# Altium footprint library CAPACITORS.PCBLIB: 12 footprints
Each footprint in its own frame and in the unit in brackets; x right, y up, seen from the top. Pads: shape width x height; smd on the part's side, far side on the other; paste and mask are expansions set on the pad; w line width, h text height; cw(c..) or ccw(c..) is an arc to the next point about the centre after c.
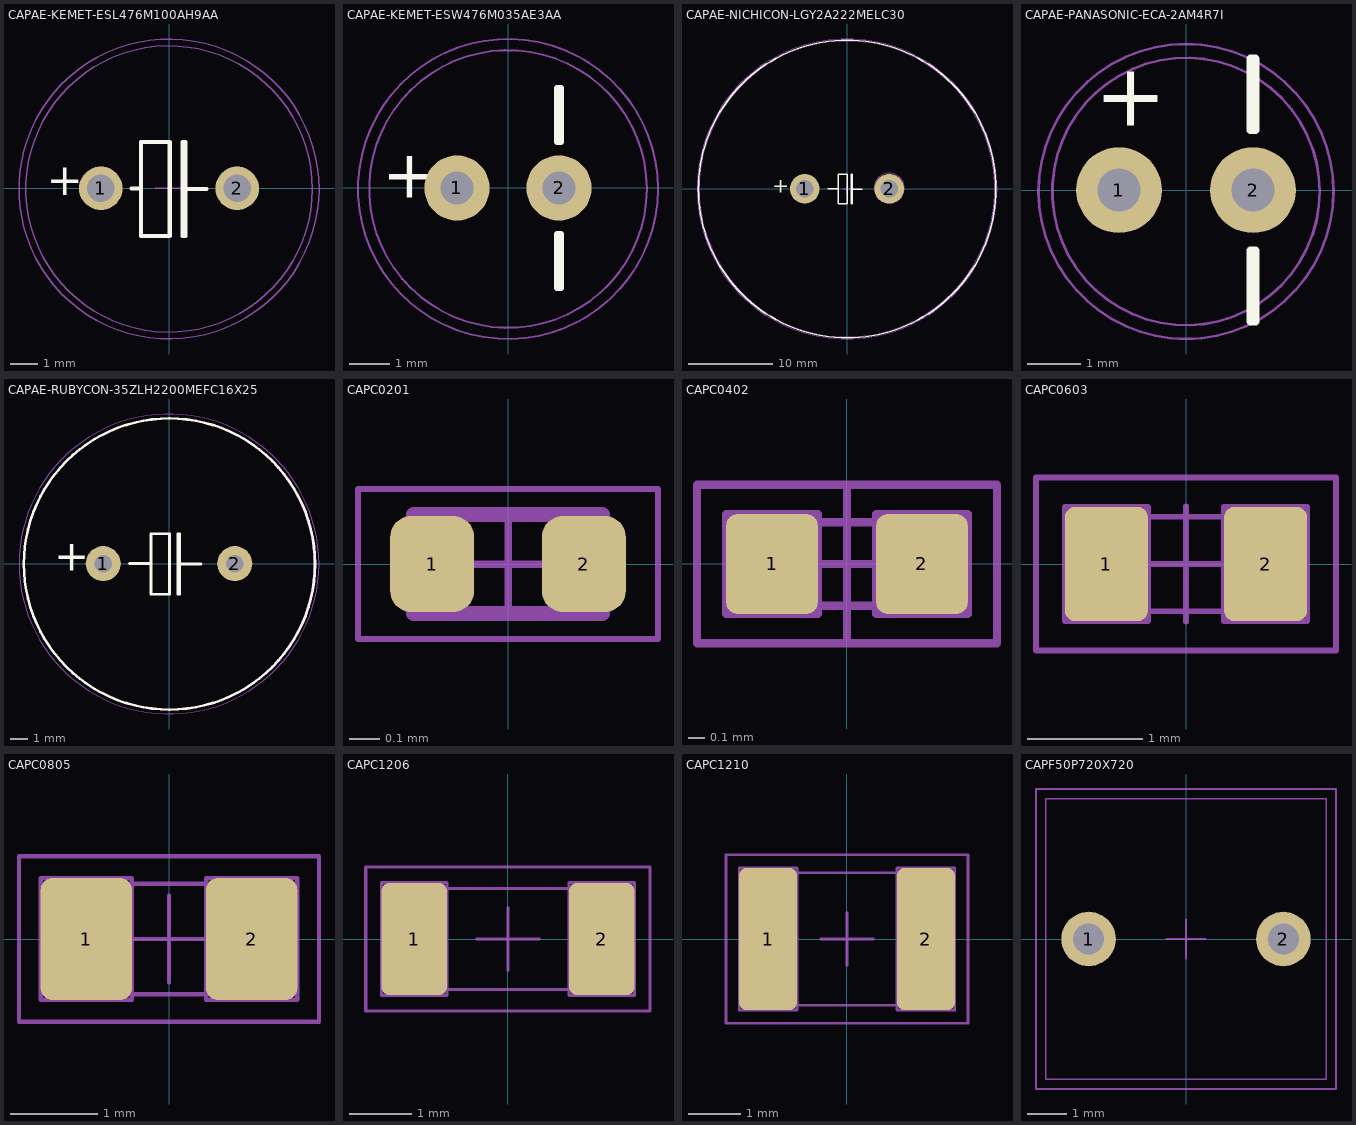
[diagram p0: the footprints below, top view; thin cyan lines are the x and y axes]

## CAPAE-KEMET-ESL476M100AH9AA [mm] "CAPACITOR,ALU-EL,KEMET-ESL476M100AH9AA"
pads (2):
  round 1.6 hole 1 unplated: 1(-2.5,0) 2(2.5,0)
Top Overlay:
  lines w0.15: -1.375,0 -1.024,0 -1.024,1.7 0.026,1.7 0.026,0.025 0.026,-1.75 -1.024,-1.75 -1.024,-0.05 ; 1.375,-0.025 0.601,-0.025 ; 0.501,-0.025 0.501,1.7 0.601,1.7 0.601,-0.025 ; 0.501,-0.025 0.601,-0.025 ; 0.501,-0.025 0.501,-1.75 0.601,-1.75 0.601,-0.025 ; 0.501,-0.025 0.601,-0.025
  text "+" at -4.475,-0.632 h2
Top Courtyard:
  circle w0.05: c0,-0.025 r5.5
  lines w0.05: -0.499,0 0.001,0 ; 0,-0.498 0,0.002 ; 0.001,0.5 0.001,0 ; 0.501,0 0.001,0
Top Assembly:
  circle w0.05: c0,-0.025 r5.25
3D body "ESL476M100AH9AA.step": height 14.02, standoff -19.99, extent -5.25,-5.267 5.25,5.25

## CAPAE-KEMET-ESW476M035AE3AA [mm] "CAPACITOR,ALU-EL,KEMET-ESW476M035AE3AA"
pads (2):
  round 1.6 hole 0.8 unplated: 1(-1.25,0) 2(1.25,0)
Top Overlay:
  lines w0.15: 1.225,-1.125 1.3,-1.125 1.3,-2.45 1.2,-2.45 1.2,-1.125 1.25,-1.125 ; 1.225,1.125 1.3,1.125 1.3,2.45 1.2,2.45 1.2,1.125 1.25,1.125
  text "+" at -3.075,-0.632 h2
Top Courtyard:
  circle w0.05: c0,-0.025 r3.675
Top Assembly:
  circle w0.05: c0,-0.025 r3.4
3D body "ESW476M035AE3AA.step": height 12.52, standoff -19.99, extent -3.37,-3.4 3.42,3.411

## CAPAE-NICHICON-LGY2A222MELC30 [mm] "CAPACITOR,ALU-EL,SNAP-IN,NICHICON,LGY2A222MELC30"
pads (2):
  round 3.5 hole 2.1 unplated: 1(-5,0) 2(5,0)
Top Overlay:
  circle w0.15: c0.025,-0.025 r17.605
  lines w0.15: -2.25,0 -1.025,0 -1.025,1.7 0.025,1.7 0.025,0.025 0.025,-1.75 -1.025,-1.75 -1.025,-0.05 ; 1.825,-0.025 0.6,-0.025 ; 0.5,-0.025 0.5,1.7 0.6,1.7 0.6,-0.025 ; 0.5,-0.025 0.6,-0.025 ; 0.5,-0.025 0.5,-1.75 0.6,-1.75 0.6,-0.025 ; 0.5,-0.025 0.6,-0.025
  text "+" at -8.875,-1.035 h3
Top Courtyard:
  circle w0.05: c0,-0.025 r17.75
  lines w0.05: -0.5,0 0,0 ; -0.001,-0.498 -0.001,0.002 ; 0,0.5 0,0 ; 0.5,0 0,0
Top Assembly:
  circle w0.05: c0,-0.025 r17.5
  circle w0.05: c5,0.088 r1.051
  circle w0.05: c5,0.088 r1.775
3D body "User Library-C_35X35_HITANO.step": height 35.01, standoff -3.49, extent -17.5,-17.525 17.5,17.5

## CAPAE-PANASONIC-ECA-2AM4R7I [mm] "CAPACITOR,ALU-EL,PANASONIC-ECA-2AM4R7I"
pads (2):
  round 1.6 hole 0.8 unplated: 1(-1.25,0) 2(1.25,0)
Top Overlay:
  lines w0.15: 1.225,-1.125 1.3,-1.125 1.3,-2.45 1.2,-2.45 1.2,-1.125 1.25,-1.125 ; 1.225,1.125 1.3,1.125 1.3,2.45 1.2,2.45 1.2,1.125 1.25,1.125
  text "+" at -1.7,0.818 h2
Top Courtyard:
  circle w0.05: c0,-0.025 r2.75
Top Assembly:
  circle w0.05: c0,-0.025 r2.493
3D body "ECA-2AM4R7I.step": height 11.01, standoff -16.99, extent -2.493,-2.5 2.5,2.5

## CAPAE-RUBYCON-35ZLH2200MEFC16X25 [mm] "CAPACITOR,ALU-EL,RUBYCON-35ZLH2200MEFC16X25"
pads (2):
  round 2 hole 1 unplated: 1(-3.75,0) 2(3.75,0)
Top Overlay:
  circle w0.15: c0.025,-0.025 r8.301
  lines w0.15: -2.25,0 -1.025,0 -1.025,1.7 0.025,1.7 0.025,0.025 ; -1.025,-0.05 -1.025,-1.75 0.025,-1.75 0.025,-0.075 ; 1.825,-0.025 0.6,-0.025 ; 0.5,-0.025 0.5,1.7 0.6,1.7 0.6,-0.025 ; 0.5,-0.025 0.6,-0.025 ; 0.5,-0.025 0.5,-1.75 0.6,-1.75 0.6,-0.025 ; 0.5,-0.025 0.6,-0.025
  text "+" at -6.55,-0.985 h3
Top Courtyard:
  circle w0.05: c0,-0.025 r8.552
Top Assembly:
  circle w0.05: c0,-0.025 r8.276
3D body "CapAluRadial_D160H250.STEP": height 27, standoff -3, extent -8.25,-8.296 8.239,8.196

## CAPC0201 [mm]
pads (2):
  rrect50% 0.28x0.32 smd mask+0.05: 1(-0.253,0) 2(0.253,0)
Top Courtyard:
  lines w0.02: -0.5,-0.25 0.5,-0.25 0.5,0.25 -0.5,0.25 -0.5,-0.25
  lines w0.025: -0.165,0 0.165,0 ; 0,-0.165 0,0.165
Top Assembly:
  lines w0.05: -0.315,-0.165 0.315,-0.165 0.315,0.165 -0.315,0.165 -0.315,-0.165
3D body "CAPC0603X03L.step": height 0.33, standoff 0, extent -0.315,-0.165 0.315,0.165

## CAPC0402 [mm] "CAPACITOR, CHIP 0402 (1005) 0.5MM THICK"
height 0.523
pads (2):
  rrect25% 0.55x0.6 smd paste+0 mask+0.075: 1(-0.45,0) 2(0.45,0)
Top Courtyard:
  lines w0.05: -0.5,0 0,0 ; 0,-0.475 0,0 ; 0,0.475 0,0 ; 0.5,0 0,0 ; -0.9,-0.475 0.9,-0.475 0.9,0.475 -0.9,0.475 -0.9,-0.475
Top Assembly:
  lines w0.05: -0.725,-0.3 -0.175,-0.3 -0.175,0.3 -0.725,0.3 -0.725,-0.3 ; -0.5,-0.251 0.5,-0.251 0.5,0.251 -0.5,0.251 -0.5,-0.251 ; 0.175,-0.3 0.725,-0.3 0.725,0.3 0.175,0.3 0.175,-0.3
3D body "capc1005x50.STEP": height 0.52, standoff 0.01, extent -0.51,-0.255 0.51,0.255

## CAPC0603 [mm] "CAPACITOR, CHIP 0603 (1608) 0.5MM THICK"
height 0.51
pads (2):
  rrect25% 0.72x0.99 smd paste+0 mask+0.075: 1(-0.69,0) 2(0.69,0)
Top Courtyard:
  lines w0.05: -0.5,0 0,0 ; 0,-0.5 0,0 ; 0,0.5 0,0 ; 0.5,0 0,0 ; -1.3,-0.75 1.3,-0.75 1.3,0.75 -1.3,0.75 -1.3,-0.75
Top Assembly:
  lines w0.05: -1.05,-0.495 -0.33,-0.495 -0.33,0.495 -1.05,0.495 -1.05,-0.495 ; -0.81,-0.41 0.81,-0.41 0.81,0.41 -0.81,0.41 -0.81,-0.41 ; 0.33,-0.495 1.05,-0.495 1.05,0.495 0.33,0.495 0.33,-0.495
3D body "MLCC capacitor 0603 - 0.5mm .STEP": height 0.51, standoff -0.01, extent -0.81,-0.41 0.81,0.41

## CAPC0805 [mm] "CAPACITOR, CHIP 0805 (2012) 0.85MM THICK"
height 0.86
pads (2):
  rrect25% 1.05x1.4 smd paste+0 mask+0.075: 1(-0.95,0) 2(0.95,0)
Top Courtyard:
  lines w0.05: -0.5,0 0,0 ; 0,-0.5 0,0 ; 0,0.5 0,0 ; 0.5,0 0,0 ; -1.725,-0.95 -1.725,0.95 1.725,0.95 1.725,-0.95 -1.725,-0.95
Top Assembly:
  lines w0.05: -1.475,-0.7 -1.475,0.7 -0.425,0.7 -0.425,-0.7 -1.475,-0.7 ; -1.01,-0.635 -1.01,0.635 1.01,0.635 1.01,-0.635 -1.01,-0.635 ; 0.425,-0.7 0.425,0.7 1.475,0.7 1.475,-0.7 0.425,-0.7
3D body "MLCC capacitor 0805 - 0.85mm .STEP": height 0.86, standoff -0.01, extent -1.01,-0.635 1.01,0.635

## CAPC1206 [mm] "CAPACITOR, CHIP 1206 (3216) 0.85MM THICK"
height 0.86
pads (2):
  rrect25% 1.05x1.8 smd paste+0 mask+0.075: 1(-1.5,0) 2(1.5,0)
Top Courtyard:
  lines w0.05: -0.5,0 0,0 ; 0,-0.5 0,0 ; 0,0.5 0,0 ; 0.5,0 0,0 ; -2.275,-1.15 -2.275,1.15 2.275,1.15 2.275,-1.15 -2.275,-1.15
Top Assembly:
  lines w0.05: -2.025,-0.9 -2.025,0.9 -0.975,0.9 -0.975,-0.9 -2.025,-0.9 ; -1.61,-0.81 -1.61,0.81 1.61,0.81 1.61,-0.81 -1.61,-0.81 ; 0.975,-0.9 0.975,0.9 2.025,0.9 2.025,-0.9 0.975,-0.9
3D body "MLCC capacitor 1206 - 0.85mm .STEP": height 0.86, standoff -0.01, extent -1.61,-0.81 1.61,0.81

## CAPC1210 [mm] "CAPACITOR CHIP 1210 (3225) 2.00MM THICK"
height 2.01
pads (2):
  rrect25% 1.1x2.7 smd paste+0 mask+0.075: 1(-1.5,0) 2(1.5,0)
Top Courtyard:
  lines w0.05: -0.5,0 0,0 ; 0,-0.5 0,0 ; 0,0.5 0,0 ; 0.5,0 0,0 ; -2.3,-1.6 2.3,-1.6 2.3,1.6 -2.3,1.6 -2.3,-1.6
Top Assembly:
  lines w0.05: -2.05,-1.35 -0.95,-1.35 -0.95,1.35 -2.05,1.35 -2.05,-1.35 ; -1.61,-1.26 1.61,-1.26 1.61,1.26 -1.61,1.26 -1.61,-1.26 ; 0.95,-1.35 2.05,-1.35 2.05,1.35 0.95,1.35 0.95,-1.35
3D body "MLCC capacitor 1210 - 2.0mm .STEP": height 2.01, standoff -0.01, extent -1.61,-1.26 1.61,1.26

## CAPF50P720X720 [mm]
pads (2):
  round 1.4 hole 0.8 unplated: 1(-2.5,0) 2(2.5,0)
Top Courtyard:
  lines w0.05: -0.5,0 0,0 ; 0,-0.5 0,0 ; 0,0.5 0,0 ; 0.5,0 0,0 ; -3.85,-3.85 -3.85,3.85 3.85,3.85 3.85,-3.85 -3.85,-3.85
Top Assembly:
  lines w0.05: -3.6,-3.6 3.6,-3.6 3.6,3.6 -3.6,3.6 -3.6,-3.6
3D body "PHE426HJ6100JR05.step": height 11.01, standoff -4.99, extent -3.6,-3.003 3.6,3.002